# Altium schematic symbol library Power-Management-ICs.SchLib: 5 symbols
Pins are listed as number, name and electrical type; pins without a type are passive.

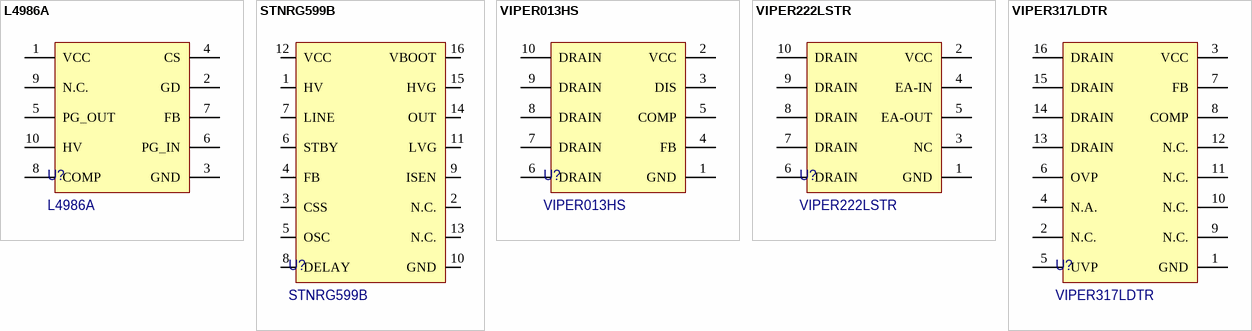
[diagram p0: symbols L4986A to VIPER317LDTR]

## L4986A
designator U?
CCM PFC CONTROLLER WITH HIGH VOL; Manufacturer: STMicroelectronics; Max Supply Voltage: 24.5V; Max Supply Current: 4.7mA; Max Switching Frequency: 71kHz; Min Input Voltage: 10V; Nominal Supply Voltage: 15V; Number of Circuits: 1; Topology: Boost; Supplier: DigiKey; Supplier Part Number: 497-L4986A-ND; Manufacturer Part Number: L4986A; RoHS: Compliant; Category: Power Factor Correction (PFC) Controllers; Stock: 138; Pricing: 1=3.49, 10=2.623, 25=2.4068, 100=2.1695, 300=2.0371, 500=1.98814, 1000=1.93198, 2500=1.87271, 5000=1.83699 (USD); Case/Package: SOP; China RoHS: Compliant; Country of Origin: Mainland China; Export Control Classification Number (ECCN) Code: EAR99; Height - Seated (Max): 1.75mm; Harmonized Tariff Schedule (HTS) Code: 8542.39.00.60; Introduction Date: 2021-07-28; Length: 4.9mm; Lifecycle Status: Production; Max Operating Temperature: 125°C; Min Operating Temperature: -25°C; Number of Terminals: 10; REACH SVHC: Yes; Terminal Pitch: 1mm; Width: 3.9mm
footprint SSOP-10
pins: 1 VCC, 2 GD, 3 GND, 4 CS, 5 PG_OUT, 6 PG_IN, 7 FB, 8 COMP, 9 N.C., 10 HV

## STNRG599B
designator U?
POWER CONVERSION; Manufacturer: STMicroelectronics; Description: Resonant Half Bridge Ctrl, 19V, Nsoic-16; |Stmicroelectronics STNRG599B; Supplier: DigiKey; Supplier Part Number: 497-STNRG599B-ND; Manufacturer Part Number: STNRG599B; Category: AC-DC Converters; Pricing: 3000=1.04196 (USD); Export Control Classification Number (ECCN) Code: 3A991.A.2; Harmonized Tariff Schedule (HTS) Code: 8542.39.00.60; Introduction Date: 2025-10-29; Lifecycle Status: Production
footprint 16-SOIC_3MM90W
pins: 1 HV, 2 N.C., 3 CSS, 4 FB, 5 OSC, 6 STBY, 7 LINE, 8 DELAY, 9 ISEN, 10 GND, 11 LVG, 12 VCC, 13 N.C., 14 OUT, 15 HVG, 16 VBOOT

## VIPER013HS
designator U?
IC OFFLINE SW MULT TOP 10SSOP; Manufacturer: STMicroelectronics; Continuous Drain Current (ID): 360mA; Max Supply Voltage: 30V; Max Supply Current: 1.5mA; Max Switching Frequency: 132kHz; Min Breakdown Voltage: 800V; Min Input Voltage: 4.5V; Nominal Supply Voltage: 9V; Number of Circuits: 1; Power Rating: 1W; Rds On Max: 30Ω; Topology: Buck-Boost; Supplier: DigiKey; Supplier Part Number: 497-VIPER013HS-ND; Manufacturer Part Number: VIPER013HS; RoHS: Compliant; Category: AC-DC Converters; Stock: 1314; Pricing: 1=0.96, 10=0.688, 25=0.6208, 100=0.5466, 250=0.51112, 500=0.48976, 2000=0.45769, 4000=0.44577, 6000=0.43981 (USD); Case/Package: SSOP; China RoHS: Compliant; Country of Origin: Mainland China; Export Control Classification Number (ECCN) Code: EAR99; Height - Seated (Max): 1.75mm; Harmonized Tariff Schedule (HTS) Code: 8542.39.00.60; Introduction Date: 2016-03-09; Length: 4.9mm; Lifecycle Status: Production; Max Operating Temperature: 125°C; Min Operating Temperature: -40°C; Pins: 10; Number of Terminals: 10; REACH SVHC: Yes; Schedule B: 8542390000; Terminal Pitch: 1mm; Width: 3.9mm; ComponentLink1URL: https://datasheet.octopart.com:443/VIPER013HS-STMicroelectronics-datasheet-62337722.pdf?src-supplier=SHENGYU+ELECTRONICS; ComponentLink1Description: https://datasheet.octopart.com:443/VIPER013HS-STMicroelectronics-datasheet-62337722.pdf?src-supplier=SHENGYU+ELECTRONICS
footprint SSOP-10
pins: 1 GND, 2 VCC, 3 DIS, 4 FB, 5 COMP, 6 DRAIN, 7 DRAIN, 8 DRAIN, 9 DRAIN, 10 DRAIN

## VIPER222LSTR
designator U?
IC OFFLINE SWITCH FLYBACK 10SSOP; Manufacturer: STMicroelectronics; Continuous Drain Current (ID): 620mA; Max Supply Voltage: 30V; Max Supply Current: 1.6mA; Max Switching Frequency: 66kHz; Min Breakdown Voltage: 730V; Min Input Voltage: 4.5V; Nominal Supply Voltage: 9V; Number of Circuits: 1; Rds On Max: 15Ω; Topology: Buck-Boost; Supplier: DigiKey; Supplier Part Number: 497-VIPER222LSCT-ND; Manufacturer Part Number: VIPER222LSTR; RoHS: Compliant; Category: AC-DC Converters; Stock: 81; Pricing: 1=0.99, 10=0.709, 25=0.6392, 100=0.5628, 250=0.52628, 500=0.5043, 1000=0.48945 (USD); Case/Package: SSOP; China RoHS: Compliant; Country of Origin: Mainland China; Export Control Classification Number (ECCN) Code: EAR99; Height - Seated (Max): 1.75mm; Harmonized Tariff Schedule (HTS) Code: 8542.39.00.60; Introduction Date: 2020-01-22; Length: 4.9mm; Lifecycle Status: Production; Max Operating Temperature: 150°C; Min Operating Temperature: -40°C; Number of Terminals: 10; Packaging: Tape and Reel; REACH SVHC: Yes; Schedule B: 8542390000, 8542390000|8542390000, 8542390000|8542390000|8542390000, 8542390000|8542390000|8542390000|8542390000; Terminal Pitch: 1mm; Width: 3.9mm
footprint SSOP-10
pins: 1 GND, 2 VCC, 3 NC, 4 EA-IN, 5 EA-OUT, 6 DRAIN, 7 DRAIN, 8 DRAIN, 9 DRAIN, 10 DRAIN

## VIPER317LDTR
designator U?
IC OFFLINE SWITCH MULT TOP 16SO; Manufacturer: STMicroelectronics; Continuous Drain Current (ID): 850mA; Max Supply Voltage: 30V; Max Supply Current: 2mA; Max Switching Frequency: 66kHz; Min Breakdown Voltage: 800V; Min Input Voltage: 4.5V; Nominal Supply Voltage: 9V; Nominal Output Voltage: 15V; Number of Circuits: 1; Rds On Max: 3.5Ω; Topology: Buck-Boost; Supplier: DigiKey; Supplier Part Number: 497-VIPER317LDCT-ND; Manufacturer Part Number: VIPER317LDTR; RoHS: Compliant; Category: AC-DC Converters; Stock: 2448; Pricing: 1=1.23, 10=0.893, 25=0.808, 100=0.7147, 250=0.6702, 500=0.6434, 1000=0.62133 (USD); Case/Package: SOP; China RoHS: Compliant; Height - Seated (Max): 1.75mm; Length: 9.9mm; Lifecycle Status: Production; Max Operating Temperature: 150°C; Min Operating Temperature: -40°C; Number of Terminals: 16; Output Voltage: 15V; Packaging: Tape and Reel; REACH SVHC: Yes; Schedule B: 8542390000; Terminal Pitch: 1.27mm; Width: 3.9mm; ComponentLink1URL: https://datasheet.octopart.com:443/VIPER317LDTR-STMicroelectronics-datasheet-142755376.pdf?src-supplier=Future+Electronics; ComponentLink1Description: https://datasheet.octopart.com:443/VIPER317LDTR-STMicroelectronics-datasheet-142755376.pdf?src-supplier=Future+Electronics
footprint 16-SOIC_3MM90W
pins: 1 GND, 2 N.C., 3 VCC, 4 N.A., 5 UVP, 6 OVP, 7 FB, 8 COMP, 9 N.C., 10 N.C., 11 N.C., 12 N.C., 13 DRAIN, 14 DRAIN, 15 DRAIN, 16 DRAIN